# EAGLE library part 1825010-6 (library Switches)
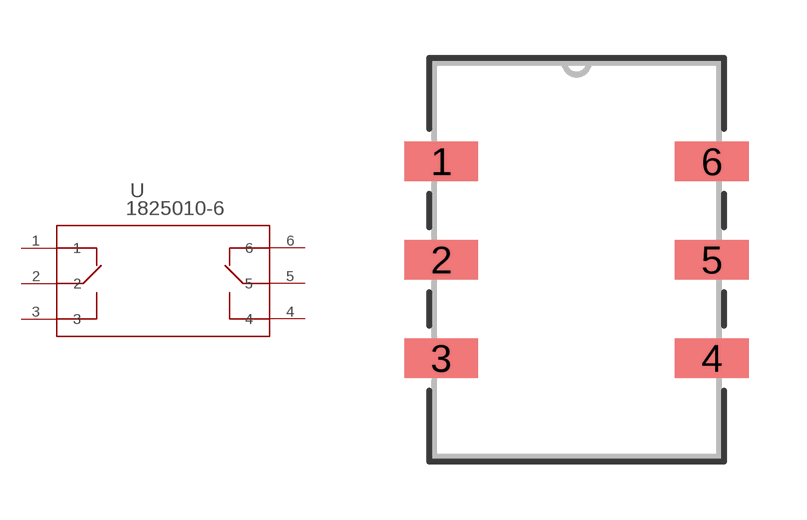
[diagram p8: symbol with the pads of SW6_275X285P100; footprint SW6_275X285P100]

Designator prefix U

## 1825010-6 (BUILT_BY: EMA_UL_Team; CATEGORY: Slide Switches; COPYRIGHT: Copyright (C) 2016 Accelerated Designs. All rights reserved; DESCRIPTION: ASE22L04=DPDT AUTOSLIDE; MANUFACTURER_PART_NUMBER: 1825010-6; PART_STATUS: active; SERIES: Alcoswitch ASE/F; VENDOR: TE Connectivity)  [SW6_275X285P100]
1  1  pas
2  2  pas
3  3  pas
4  4  pas
5  5  pas
6  6  pas

## Footprint SW6_275X285P100 (pad centres in mm)
smd 1.905 x 1.016: 1 -3.493,2.54; 2 -3.493,0; 3 -3.493,-2.54; 4 3.493,-2.54; 5 3.493,0; 6 3.493,2.54